# EAGLE library part CAT5 (library connector-jqi)
Standard CAT-5 Ethernet jack.
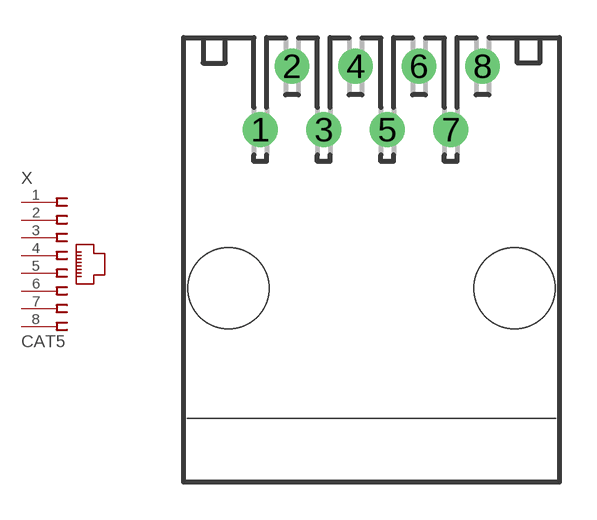
[diagram p0: symbol with the pads of 555164-1; footprint 555164-1]

Designator prefix X

## CAT5 (DIGIKEY: A31442-ND)  [555164-1]
1  1  pas
2  2  pas
3  3  pas
4  4  pas
5  5  pas
6  6  pas
7  7  pas
8  8  pas

## Footprint 555164-1 (pad centres in mm)
555164-1 8-pin ethernet jack.
drill 0.889: 1 -4.445,6.477; 2 -3.175,9.017; 3 -1.905,6.477; 4 -0.635,9.017; 5 0.635,6.477; 6 1.905,9.017; 7 3.175,6.477; 8 4.445,9.017
hole 3.251 at -5.715,0.127
hole 3.251 at 5.715,0.127